# EAGLE library part 0430450609 (library power_connectors)
Molex - Micro-Fit 3.0 Series connector, 3.00mm (0.118") pitch header, 6 positions.
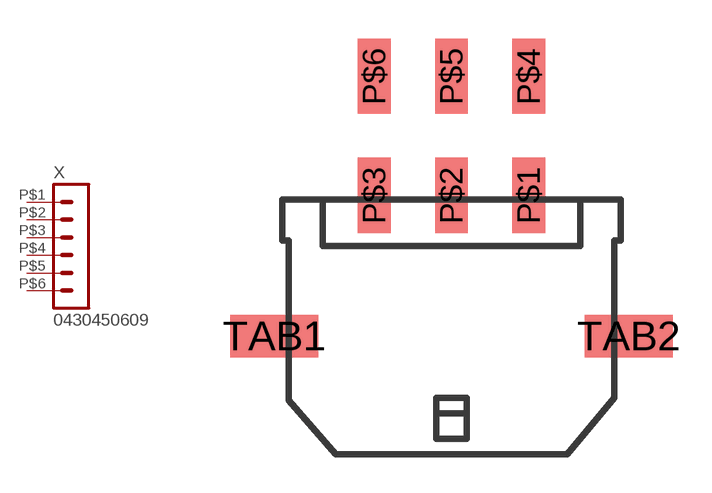
[diagram p2: symbol with the pads of CON-MICRO-FIT-6POS-RA-SMT; footprint CON-MICRO-FIT-6POS-RA-SMT]

Designator prefix X

## 043045060943045-0609 (DESCRIPTION: CONN HEADER 6POS RT ANG SMD TIN)  [CON-MICRO-FIT-6POS-RA-SMT]
P$1  1  pas
P$2  2  pas
P$3  3  pas
P$4  4  pas
P$5  5  pas
P$6  6  pas

## Footprint CON-MICRO-FIT-6POS-RA-SMT (pad centres in mm)
Molex Micro-Fit 3.0 - Header Shrouded, Surface mount, Right Angle, Solderable tabs; P/N: SD-43045-0609, SD-43045-0610, SD-43045-0611 http://www.molex.com/pdm_docs/sd/430450209_sd.pdf
smd 1.27 x 2.92: P$1 3,5.47; P$2 0,5.47; P$3 -3,5.47; P$4 3,10.1; P$5 0,10.1; P$6 -3,10.1
smd 3.43 x 1.65: TAB1 -6.88,0; TAB2 6.88,0